# Altium footprint library XCVR_RAK3172-8-SM-NI.PcbLib: 1 footprints
Each footprint in its own frame and in the unit in brackets; x right, y up, seen from the top. Pads: shape width x height; smd on the part's side, far side on the other; paste and mask are expansions set on the pad; w line width, h text height; cw(c..) or ccw(c..) is an arc to the next point about the centre after c.
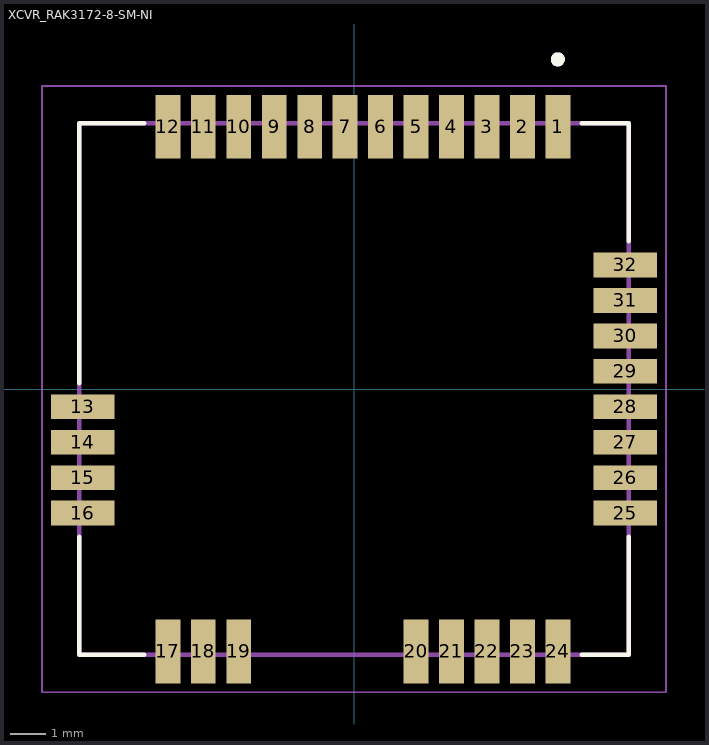
[diagram p0: the footprint, top view; thin cyan lines are the x and y axes]

## XCVR_RAK3172-8-SM-NI [mm]
height 2.6
pads (32):
  rect 0.7x1.8 smd: 1(5.75,7.4) 2(4.75,7.4) 3(3.75,7.4) 4(2.75,7.4) 5(1.75,7.4) 6(0.75,7.4) 7(-0.25,7.4) 8(-1.25,7.4) 9(-2.25,7.4) 10(-3.25,7.4) 11(-4.25,7.4) 12(-5.25,7.4) 17(-5.25,-7.4) 18(-4.25,-7.4) 19(-3.25,-7.4) 20(1.75,-7.4) 21(2.75,-7.4) 22(3.75,-7.4) 23(4.75,-7.4) 24(5.75,-7.4)
  rect 1.8x0.7 smd: 13(-7.65,-0.5) 14(-7.65,-1.5) 15(-7.65,-2.5) 16(-7.65,-3.5) 25(7.65,-3.5) 26(7.65,-2.5) 27(7.65,-1.5) 28(7.65,-0.5) 29(7.65,0.5) 30(7.65,1.5) 31(7.65,2.5) 32(7.65,3.5)
Top Overlay:
  circle w0.2: c5.75,9.3 r0.1
  lines w0.127: -7.75,-4.17 -7.75,-7.5 -5.92,-7.5 ; -7.75,0.17 -7.75,7.5 -5.92,7.5 ; 6.42,-7.5 7.75,-7.5 7.75,-4.17 ; 6.42,7.5 7.75,7.5 7.75,4.17
Mechanical 13:
  circle w0.2: c5.75,9.3 r0.1
  lines w0.127: -7.75,-7.5 7.75,-7.5 7.75,7.5 -7.75,7.5 -7.75,-7.5
Mechanical 15:
  lines w0.05: -8.8,-8.55 8.8,-8.55 8.8,8.55 -8.8,8.55 -8.8,-8.55
3D body "RAK3172--3DModel-STEP-100311 (1).STEP": height 3.54, standoff 0.03, extent -7.749,-7.519 7.751,7.481